# EAGLE library part PCF8574T (library FaBo-Parts)
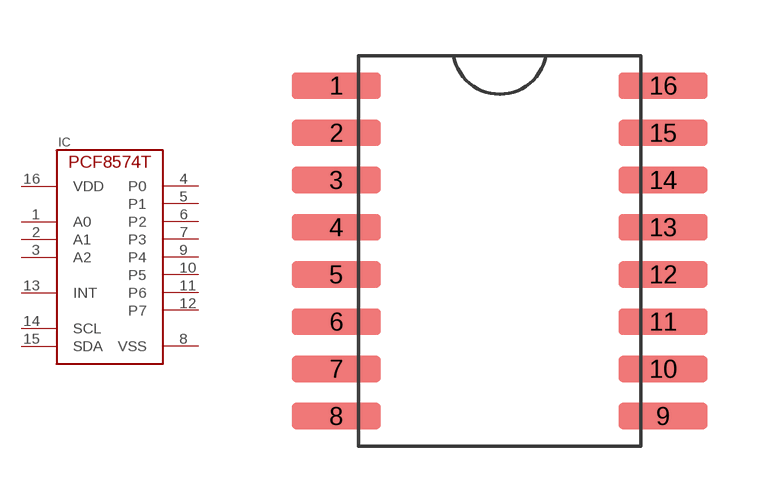
[diagram p7: symbol with the pads of SO16; footprint SO16]

Designator prefix IC

## PCF8574T  [SO16]
1  A0
2  A1
3  A2
4  P0
5  P1
6  P2
7  P3
8  VSS
9  P4
10  P5
11  P6
12  P7
13  INT
14  SCL
15  SDA
16  VDD

## Footprint SO16 (pad centres in mm)
smd 2.4 x 0.7: 1 -4.4,4.445; 2 -4.4,3.175; 3 -4.4,1.905; 4 -4.4,0.635; 5 -4.4,-0.635; 6 -4.4,-1.905; 7 -4.4,-3.175; 8 -4.4,-4.445; 9 4.4,-4.445; 10 4.4,-3.175; 11 4.4,-1.905; 12 4.4,-0.635; 13 4.4,0.635; 14 4.4,1.905; 15 4.4,3.175; 16 4.4,4.445